# Altium footprint library GD_Power_Meter_Draft.PcbLib: 23 footprints (part 2 of 2)
Each footprint in its own frame and in the unit in brackets; x right, y up, seen from the top. Pads: shape width x height; smd on the part's side, far side on the other; paste and mask are expansions set on the pad; w line width, h text height; cw(c..) or ccw(c..) is an arc to the next point about the centre after c.
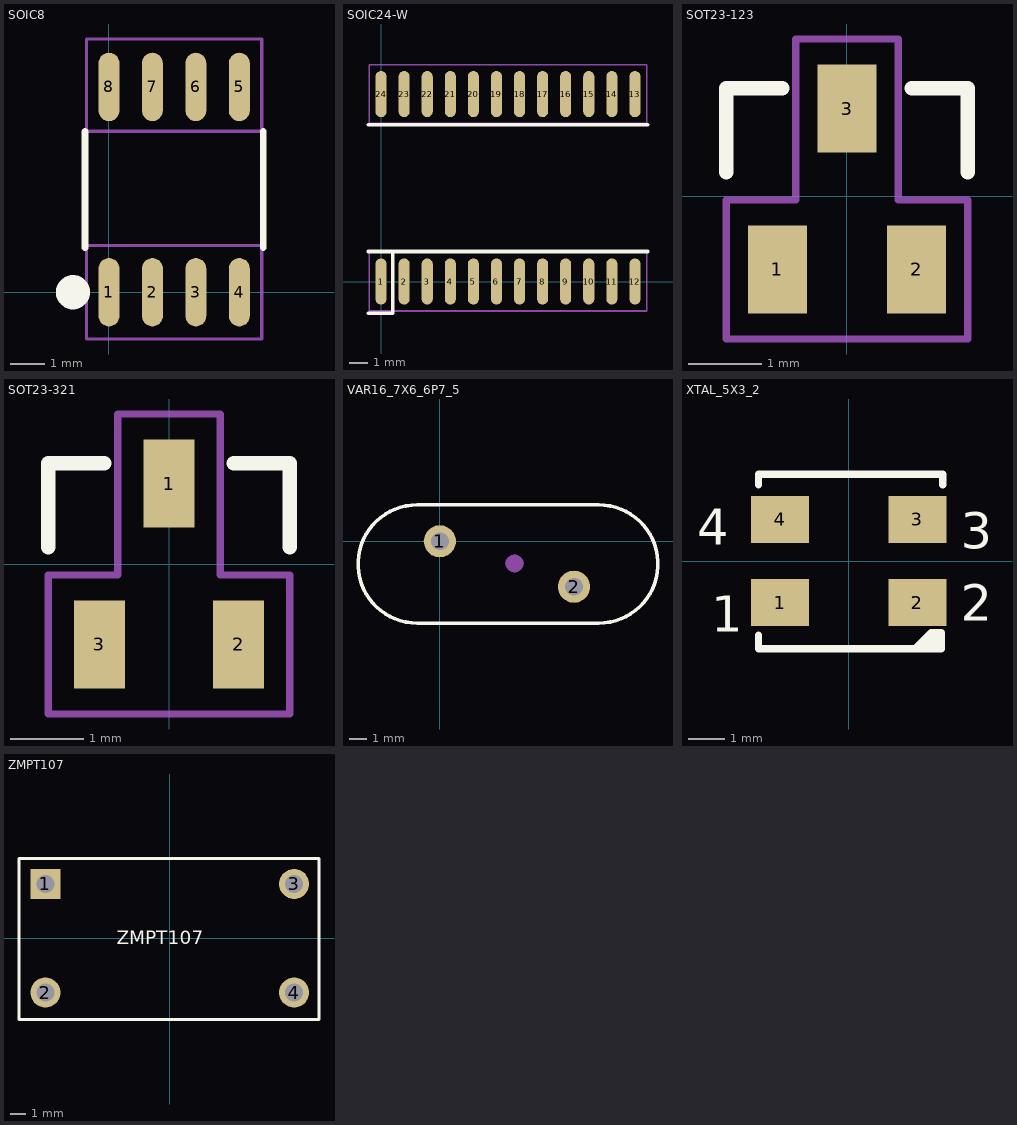
[diagram p1: the footprints below, top view; thin cyan lines are the x and y axes]

## SOIC8 [mm]
pads (8):
  oval 0.61x2 smd: 1(0,0) 2(1.27,0) 3(2.54,0) 4(3.81,0) 5(3.81,6) 6(2.54,6) 7(1.27,6) 8(0,6)
Top Overlay:
  circle w0.5: c-1.05,0 r0.25
  lines w0.2: -0.7,1.3 -0.7,4.7 ; 4.51,1.3 4.51,4.7
Mechanical 16:
  lines w0.1: -0.655,-1.367 -0.655,1.366 4.465,1.366 4.465,-1.367 -0.655,-1.366 ; -0.655,4.7 -0.655,7.4 4.465,7.4 4.465,4.7 -0.655,4.7
3D body: height 1.75, standoff 0, extent -0.699,1.301 4.509,4.699

## SOIC24-W [mm]
pads (24):
  oval 0.61x2.54 smd: 1(0,0) 2(1.27,0) 3(2.54,0) 4(3.81,0) 5(5.08,0) 6(6.35,0) 7(7.62,0) 8(8.89,0) 9(10.16,0) 10(11.43,0) 11(12.7,0) 12(13.97,0) 13(13.97,10.312) 14(12.7,10.312) 15(11.43,10.312) 16(10.16,10.312) 17(8.89,10.312) 18(7.62,10.312) 19(6.35,10.312) 20(5.08,10.312) 21(3.81,10.312) 22(2.54,10.312) 23(1.27,10.312) 24(0,10.312)
Top Overlay:
  lines w0.2: -0.7,-1.75 0.635,-1.75 0.635,1.651 ; -0.7,1.651 14.67,1.651 ; -0.7,8.636 14.67,8.636
Mechanical 16:
  lines w0.1: -0.655,-1.62 -0.655,1.62 14.625,1.62 14.625,-1.62 -0.655,-1.62 ; -0.655,8.692 14.625,8.692 14.625,11.932 -0.655,11.932 -0.655,8.692
3D body: height 2.5, standoff 0, extent -0.699,1.652 14.669,8.635

## SOT23-123 [mm]
pads (3):
  rect 0.8x1.2 smd: 1(-0.95,-1) 2(0.95,-1) 3(0,1.2)
Top Overlay:
  lines w0.2: -1.65,0.332 -1.65,1.475 -0.889,1.475 ; 0.889,1.475 1.65,1.475 1.65,0.332
Mechanical 16:
  lines w0.1: -1.65,-1.95 -1.65,-0.05 -0.7,-0.05 -0.7,2.15 0.7,2.15 0.7,-0.05 1.65,-0.05 1.65,-1.95 -1.65,-1.95
3D body: height 1.2, standoff 0, extent -1.6,-1.3 1.6,1.3

## SOT23-321 [mm]
pads (3):
  rect 0.7x1.2 smd: 1(0,1.1) 2(0.95,-1.1) 3(-0.95,-1.1)
Top Overlay:
  lines w0.2: -1.65,0.232 -1.65,1.375 -0.889,1.375 ; 0.889,1.375 1.65,1.375 1.65,0.232
Mechanical 16:
  lines w0.1: -1.65,-2.05 1.65,-2.05 1.65,-0.15 0.7,-0.15 0.7,2.05 -0.7,2.05 -0.7,-0.15 -1.65,-0.15 -1.65,-2.05

## VAR16_7X6_6P7_5 [mm]
pads (2):
  round 1.8 hole 1: 1(0,0) 2(7.5,-2.54)
Top Overlay:
  lines w0.2: -1.27,-4.572 cw(c-1.27,-1.27) -1.27,2.032 8.89,2.032 cw(c8.89,-1.27) 8.89,-4.572 -1.27,-4.572
Mechanical 16:
  region: 4.683,-1.241 4.645,-1.045 4.534,-0.88 4.369,-0.769 4.174,-0.731 3.978,-0.769 3.813,-0.88 3.702,-1.045 3.664,-1.241 3.702,-1.436 3.813,-1.601 3.978,-1.712 4.174,-1.75 4.369,-1.712 4.534,-1.601 4.645,-1.436
3D body: height 21, standoff 0, extent -4.5,-4.6 12.2,2

## XTAL_5X3_2 [mm] "ABM3C"
height 1.3
pads (4):
  rect 1.6x1.3 smd: 1(-1.9,-1.15) 2(1.9,-1.15) 3(1.9,1.15) 4(-1.9,1.15)
Top Overlay:
  lines w0.2: -2.5,-2.044 -2.5,-2.425 1.829,-2.425 ; -2.5,2.1 -2.5,2.4 2.6,2.4 2.6,2.1 ; 2.496,-2.385 2.496,-1.974 ; 1.829,-2.425 2.455,-2.425 ; 1.829,-2.425 2.279,-1.974 ; 2.279,-2.191 2.415,-2.326 cw(c2.316,-2.425) 2.455,-2.425 ; 2.279,-2.191 2.083,-2.388 2.496,-1.974 ; 2.279,-2.191 2.279,-1.974 ; 2.279,-1.974 2.568,-1.974 ; 2.455,-2.425 2.568,-2.425 2.568,-1.974 ; 2.496,-1.974 2.568,-1.974
  text "4" at -4.2,0.45 h1
  text "3" at 3.1,0.34 h1
  text "2" at 3.1,-1.65 h1
  text "1" at -3.8,-1.95 h1
3D body: height 2, standoff 0, extent -2.5,-2.425 2.6,2.4

## ZMPT107 [mm]
pads (4):
  rect 2x2 hole 1.2: 1(-8.25,3.6)
  round 2 hole 1.2: 2(-8.25,-3.6) 3(8.25,3.6) 4(8.25,-3.6)
Top Overlay:
  lines w0.2: -10,-5.4 9.9,-5.4 9.9,5.3 -10,5.3 -10,-5.4
  text "ZMPT107" at -3.5,-0.7 h1.52
3D body: height 18.9, standoff 0, extent -10.1,-5.5 10,5.4